# Altium footprint library C&K Slide Switch Vertical.PcbLib: 1 footprints
Each footprint in its own frame and in the unit in brackets; x right, y up, seen from the top. Pads: shape width x height; smd on the part's side, far side on the other; paste and mask are expansions set on the pad; w line width, h text height; cw(c..) or ccw(c..) is an arc to the next point about the centre after c.
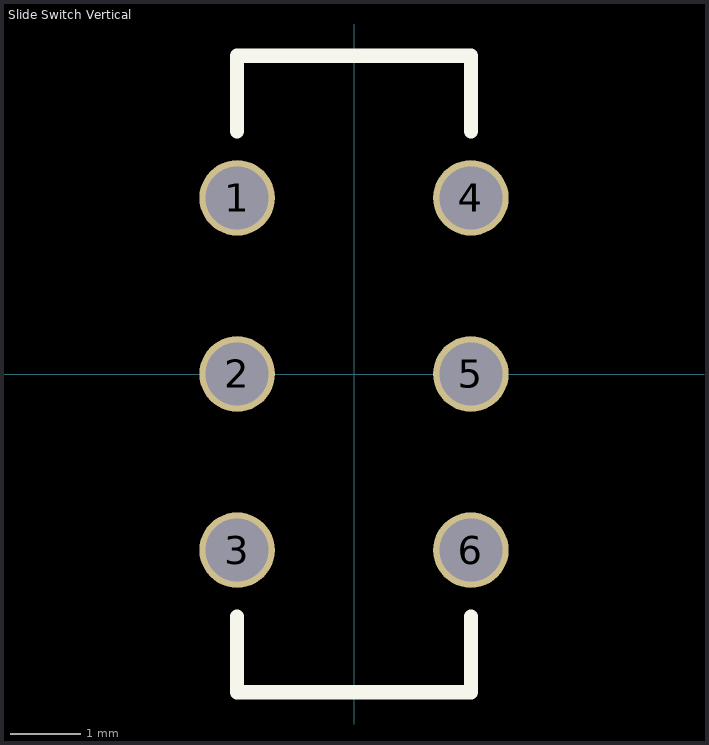
[diagram p0: the footprint, top view; thin cyan lines are the x and y axes]

## Slide Switch Vertical [mil]
pads (6):
  round 42 hole 35: 1(-65,98) 2(-65,0) 3(-65,-98) 4(65,98) 5(65,0) 6(65,-98)
Top Overlay:
  lines w7.87: -65,-177 65,-177 ; -65,-175 -65,-134.84 ; -65,135 -65,177 65,177 65,135 ; 65,-175 65,-134.84
3D body "js202011cqn.stp": height 205.51, standoff -129.13, extent -70.87,-177.16 70.87,177.17